# Altium footprint library PCB_SDR.PcbLib: 49 footprints (part 3 of 4)
Each footprint in its own frame and in the unit in brackets; x right, y up, seen from the top. Pads: shape width x height; smd on the part's side, far side on the other; paste and mask are expansions set on the pad; w line width, h text height; cw(c..) or ccw(c..) is an arc to the next point about the centre after c.
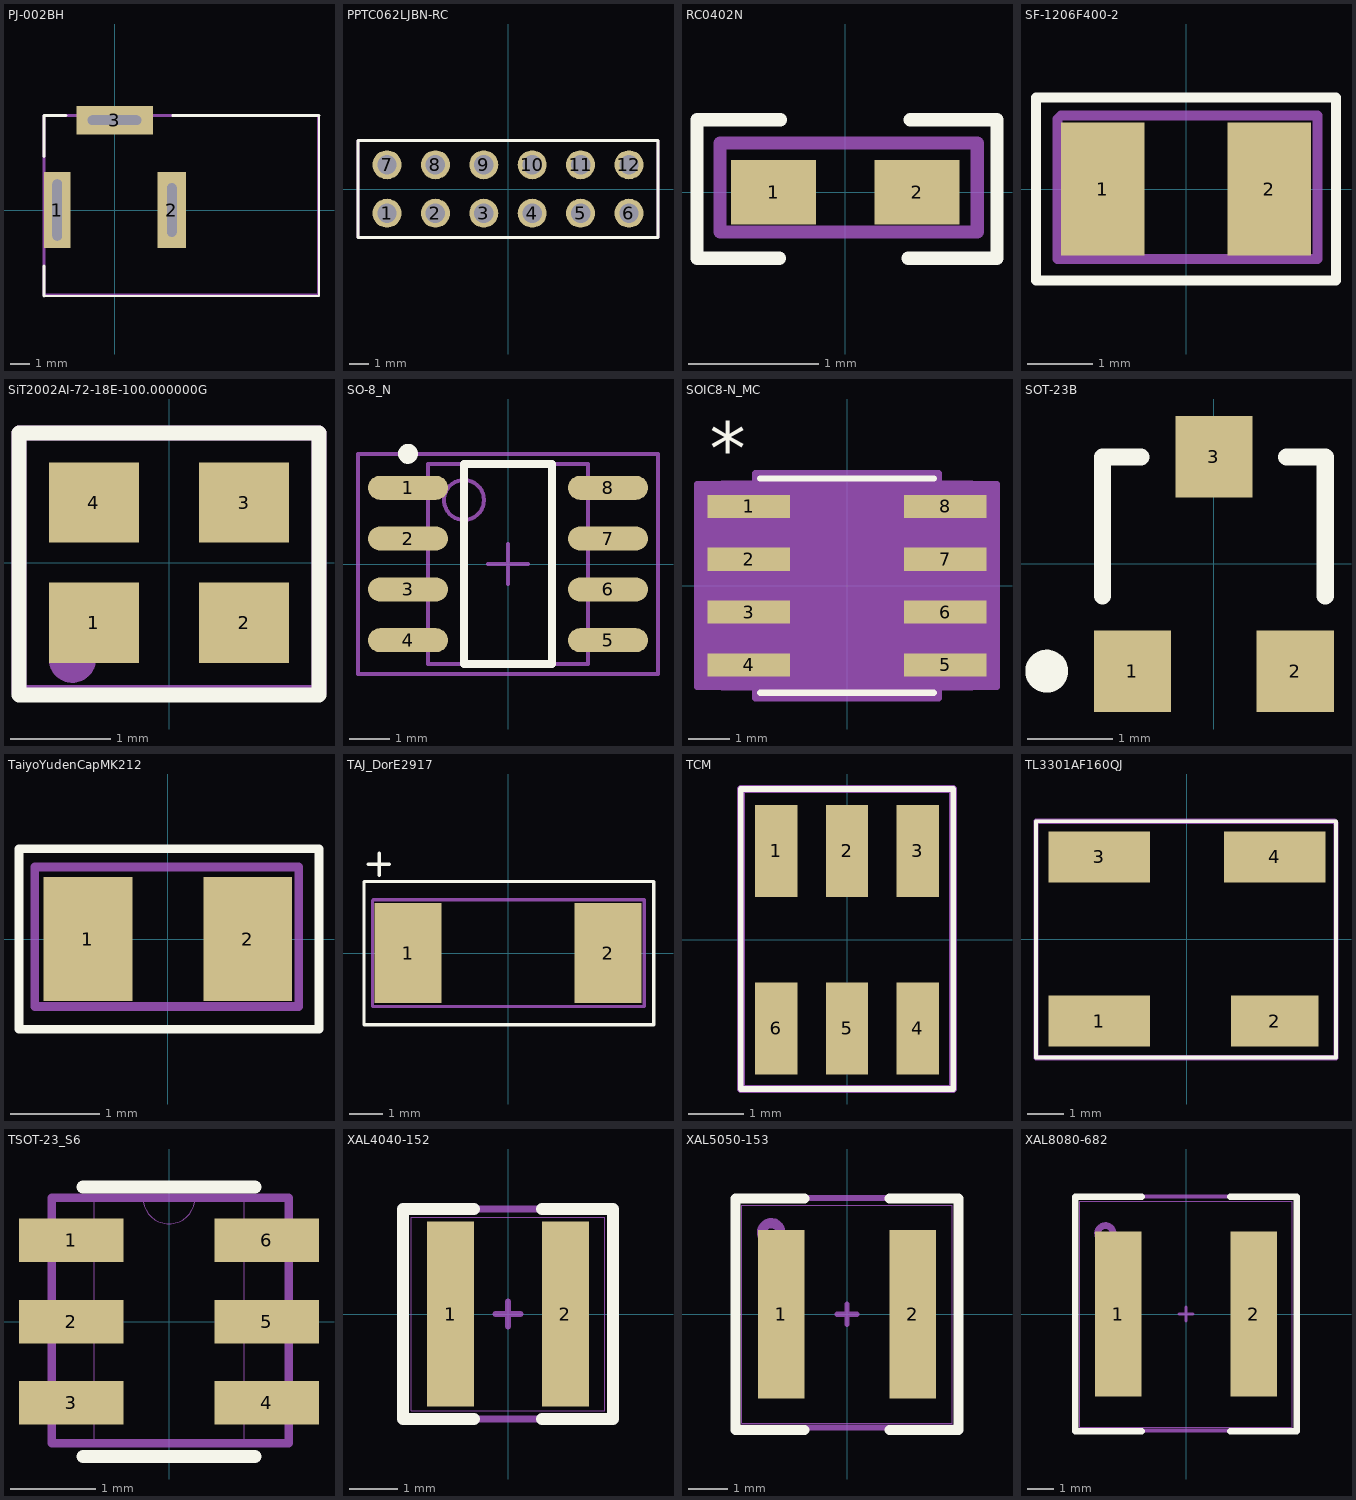
[diagram p2: the footprints below, top view; thin cyan lines are the x and y axes]

## PJ-002BH [mm]
pads (3):
  rect 1.4x4 hole 0.5 slot 3.2 at 90 deg: 1(-3,0)
  rect 1.5x4 hole 0.5 slot 2.8 at 90 deg: 2(3,0)
  rect 4x1.5 hole 0.5 slot 2.8 at 0 deg: 3(0,4.7)
Top Overlay:
  lines w0.127: -3.7,-4.5 10.7,-4.5 10.7,4.953
  lines w0.15: -3.7,-4.5 -3.7,-2.921 ; -3.683,2.794 -3.683,4.953 -2.54,4.953 ; 3.048,4.953 10.7,4.953
Mechanical 16:
  lines w0.15: -3.683,-4.445 -3.683,4.953 10.668,4.953 10.668,-4.445 10.541,-4.445 -3.683,-4.445
Mechanical 29:
  text ".Designator" at 0.127,-0.254 h1.02
3D body "pj-002bh.stp": height 11, standoff -3.5, extent -3.732,-4.446 10.668,4.954

## PPTC062LJBN-RC [mil]
pads (12):
  round 60 hole 40.16: 1(-250,-50) 2(-150,-50) 3(-50,-50) 4(50,-50) 5(150,-50) 6(250,-50) 7(-250,50) 8(-150,50) 9(-50,50) 10(50,50) 11(150,50) 12(250,50)
Top Overlay:
  lines w5.91: -309.84,-100 309.84,-100 309.84,100 -309.84,100 -309.84,-100
Mechanical 16:
  lines w5.91: -310,-100 310,-100 310,100 -310,100 -310,-100
Mechanical 29:
  text ".Designator" at -155,-10 h40
3D body "_ _ _C062LJBN-RC.STEP": height 200, standoff -124.02, extent -310,-452.76 309.69,52.76

## RC0402N [mm]
pads (2):
  rect 0.656x0.5 smd: 1(-0.553,0) 2(0.553,0)
Top Overlay:
  lines w0.102: -0.508,-0.508 -1.143,-0.508 -1.143,0.559 -0.5,0.559 ; 0.483,-0.508 1.168,-0.508 1.168,0.559 0.5,0.559
Mechanical 16:
  lines w0.102: -0.965,-0.305 -0.965,0.381 1.016,0.381 1.016,-0.305 -0.965,-0.305
Mechanical 29:
  text ".Designator" at -0.66,-0.127 h0.38
3D body "User Library-SMD RESISTOR-10402.STEP": height 0.36, standoff 0, extent -0.5,-0.246 0.5,0.254

## SF-1206F400-2 [mm]
pads (2):
  rect 1.27x2.03 smd: 1(-1.27,0) 2(1.27,0)
Top Overlay:
  lines w0.15: -2.286,-1.397 -2.286,1.397 2.286,1.397 2.286,-1.397 -2.286,-1.397
Mechanical 16:
  lines w0.15: -1.956,-1.067 2.007,-1.067 2.007,1.118 -1.905,1.118 -1.956,1.067 -1.956,-1.067
  lines w0.254: -1.377,0.658 cw(c-1.448,0.686) -1.372,0.686
Mechanical 29:
  text ".Designator" at -1.143,-0.356 h0.51

## SiT2002AI-72-18E-100.000000G [mm]
pads (4):
  rect 0.9x0.8 smd: 1(-0.75,-0.6) 2(0.75,-0.6) 3(0.75,0.6) 4(-0.75,0.6)
Top Overlay:
  lines w0.15: -1.499,-1.321 1.499,-1.321 1.499,1.295 -1.499,1.295 -1.499,-1.321
Mechanical 16:
  lines w0.15: -1.499,-1.295 -1.499,1.295 1.499,1.295 1.499,-1.295 -1.499,-1.295
  lines w0.254: -0.858,-0.953 ccw(c-0.965,-0.965) -0.857,-0.965
Mechanical 29:
  text ".Designator" at -0.813,-0.178 h1.02
3D body: height 1, standoff 0, extent -1.016,-0.762 1.016,0.762

## SO-8_N [mm]
pads (8):
  oval 2x0.6 smd: 1(-2.5,1.905) 2(-2.5,0.635) 3(-2.5,-0.635) 4(-2.5,-1.905) 5(2.5,-1.905) 6(2.5,-0.635) 7(2.5,0.635) 8(2.5,1.905)
Top Overlay:
  circle w0.25: c-2.5,2.755 r0.125
  lines w0.2: -1.1,-2.5 1.1,-2.5 1.1,2.5 -1.1,2.5 -1.1,-2.5
Mechanical 13:
  circle w0.1: c-1.1,1.6 r0.5
  lines w0.1: -2,-2.5 2,-2.5 2,2.5 -2,2.5 -2,-2.5
Mechanical 15:
  lines w0.1: -0.5,0 0.5,0 ; 0,-0.5 0,0.5 ; -3.75,-2.75 3.75,-2.75 3.75,2.75 -3.75,2.75 -3.75,-2.75
3D body: height 1.75, standoff 0, extent -2,-2.5 2,2.5

## SOIC8-N_MC [mil]
pads (8):
  rect 78x22 smd: 1(-93,75) 2(-93,25) 3(-93,-25) 4(-93,-75) 5(93,-75) 6(93,-25) 7(93,25) 8(93,75)
Top Overlay:
  lines w6: -82,-101.5 82,-101.5 ; -82,101.5 82,101.5
  text "*" at -130,105 h50
Mechanical 13:
  lines w0: -12,96.5 ccw(c0,96.5) 12,96.5
Mechanical 15:
  region: -87,-96 -142,-96 -142,96 -87,96 -87,106.5 87,106.5 87,96 142,96 142,-96 87,-96 87,-106.5 -87,-106.5
  lines w6: -142,-96 -87,-96 -87,-106.5 87,-106.5 87,-96 142,-96 142,96 87,96 87,106.5 -87,106.5 -87,96 -142,96 -142,-96
Mechanical 16:
  lines w5.91: -118.1,96.45 -118.1,-96.46 118.12,-96.46 118.12,96.45 -116.65,96.45
Mechanical 29:
  text ".Designator" at -70,-10 h30
3D body "User Library-SOIC-8-1.STEP": height 68.9, standoff 0, extent -118.1,-96.46 118.12,96.45

## SOT-23B [mm]
pads (3):
  rect 0.9x0.95 smd: 1(-0.95,-1.25) 2(0.95,-1.25) 3(0,1.25)
Top Overlay:
  circle w0.25: c-1.95,-1.25 r0.125
  lines w0.2: -1.3,-0.375 -1.3,1.25 -0.85,1.25 ; 0.85,1.25 1.3,1.25 1.3,-0.375
3D body "User Library-SOT-23-4.STEP": height 1.02, standoff -0.05, extent -1.475,-1.133 1.475,1.25

## TaiyoYudenCapMK212 [mm]
pads (2):
  rect 1x1.4 smd: 1(-0.9,0) 2(0.9,0)
Top Overlay:
  lines w0.1: -1.676,-1.016 1.702,-1.016 1.702,1.016 -1.676,1.016 -1.676,-1.016
Mechanical 16:
  lines w0.1: -1.499,-0.762 -1.499,0.813 1.473,0.813 1.473,-0.762 -1.499,-0.762
Mechanical 29:
  text ".Designator" at -0.864,-0.229 h0.76
3D body "User Library-SMD CAPACITOR0805.STEP": height 0.6, standoff 0, extent -1,-0.625 1,0.625

## TAJ_DorE2917 [mm]
pads (2):
  rect 2x3 smd: 1(-3,0) 2(3,0)
Top Overlay:
  lines w0.1: -4.191,2.667 -3.556,2.667 ; -3.861,2.337 -3.861,2.997 ; -4.318,-2.15 4.369,-2.15 4.369,2.15 -4.318,2.15 -4.318,-2.15
Mechanical 16:
  lines w0.1: -4.064,-1.6 4.089,-1.6 4.089,1.6 -4.039,1.6 -4.064,1.575 -4.064,-1.6
  lines w0.254: -3.1,0.925 cw(c-3.175,0.914) -3.1,0.928
Mechanical 29:
  text ".Designator" at -3.048,-0.508 h1.52
3D body "Y__Y90.stp": height 1.89, standoff -0.01, extent -3.7,-2.235 3.7,2.215

## TCM [mm]
pads (6):
  rect 0.76x1.65 smd: 1(-1.27,1.59) 2(0,1.59) 3(1.27,1.59) 4(1.27,-1.59) 5(0,-1.59) 6(-1.27,-1.59)
Top Overlay:
  lines w0.1: -1.905,-2.675 -1.905,2.7 1.905,2.7 1.905,-2.675 -1.905,-2.675
Mechanical 16:
  lines w0.15: -1.9,-2.675 1.9,-2.675 1.9,2.7 -1.9,2.7 -1.9,-2.675
Mechanical 29:
  text ".Designator" at -1.35,0.025 h1.02
3D body: height 4, standoff 0, extent -1.925,-2.025 1.9,2.025

## TL3301AF160QJ [mm]
pads (4):
  rect 2.785x1.4 smd: 1(-2.408,-2.25) 3(-2.408,2.25) 4(2.408,2.25)
  rect 2.408x1.4 smd: 2(2.408,-2.25)
Top Overlay:
  lines w0.1: -4.14,-3.251 4.089,-3.251 4.089,3.226 -4.14,3.226 -4.14,-3.251
Mechanical 16:
  lines w0.15: -4.14,-3.251 4.089,-3.251 4.089,3.175 4.039,3.226 -4.14,3.226 -4.14,-3.251
Mechanical 29:
  text ".Designator" at -3.023,-0.457 h1.52
3D body "TL3301AFxxxxJ.stp": height 5.32, standoff 0.02, extent -3.3,-3 3.3,3

## TSOT-23_S6 [mil]
pads (6):
  rect 48x20 smd: 1(-45,37.4) 2(-45,0) 3(-45,-37.4) 4(45,-37.4) 5(45,0) 6(45,37.4)
Top Overlay:
  lines w6: -39.5,-62 39.5,-62 ; -39.5,62 39.5,62
Mechanical 1:
  lines w0: -12,57 ccw(c0,57) 12,57 ; -55,-46.4 -34.5,-46.4 -34.5,-28.4 -55,-28.4 -55,-46.4 ; -55,-9 -34.5,-9 -34.5,9 -55,9 -55,-9 ; -55,28.4 -34.5,28.4 -34.5,46.4 -55,46.4 -55,28.4 ; -34.5,-57 -34.5,57 34.5,57 34.5,-57 -34.5,-57 ; 34.5,-46.4 55,-46.4 55,-28.4 34.5,-28.4 34.5,-46.4 ; 34.5,-9 55,-9 55,9 34.5,9 34.5,-9 ; 34.5,28.4 55,28.4 55,46.4 34.5,46.4 34.5,28.4
Mechanical 16:
  lines w3.94: -54,-56 -54,46 -54,57 55,57 55,-56 -54,-56
  lines w10: -33.88,38.48 cw(c-37,39) -33.88,39.52
Mechanical 29:
  text ".Designator" at -33,-12 h60
3D body "User Library-SOT23-6-2.STEP": height 57.09, standoff 0, extent -55.11,-57.09 55.12,57.09

## XAL4040-152 [mil]
pads (2):
  rect 38x150 smd: 1(-46.5,0) 2(46.5,0)
Top Overlay:
  lines w10: -27.5,-85 -85,-85 -85,85 -27.5,85 ; 27.5,-85 85,-85 85,85 27.5,85
Mechanical 13:
  lines w5: -10,0 10,0 ; 0,-10 0,10
Mechanical 14:
  lines w1: -78.5,-78.5 78.5,-78.5 78.5,78.5 -78.5,78.5 -78.5,-78.5
Mechanical 16:
  lines w5.91: -86,-85 -86,84 -85,85 84,85 84,-84 83,-85 -86,-85
  lines w10: -48.23,63.79 ccw(c-53,62) -47.92,61.58
Mechanical 29:
  text ".Designator" at -41,-27 h40
3D body "XAL4040.STEP": height 161.48, standoff 0.06, extent -84.65,-84.65 84.64,84.64

## XAL5050-153 [mil]
pads (2):
  rect 46x167 smd: 1(-65,0) 2(65,0)
Top Overlay:
  lines w10: -42,-114.5 -110.5,-114.5 -110.5,114.5 -42,114.5 ; 42,-114.5 110.5,-114.5 110.5,114.5 42,114.5
Mechanical 13:
  lines w5: -10,0 10,0 ; 0,-10 0,10
Mechanical 14:
  lines w1: -104,-108 -104,108 104,108 104,-108 -104,-108
Mechanical 16:
  lines w5.91: -110,-112 -110,115 109,115 109,-110.5 107.5,-112 -110,-112
  lines w10: -66.25,83.92 ccw(c-75,81) -65.83,81.92
Mechanical 29:
  text ".Designator" at -40,-5 h40
3D body "XAL5050-153.STEP": height 200.85, standoff 0.06, extent -107.88,-111.81 107.87,111.81

## XAL8080-682 [mil]
pads (2):
  rect 70x247 smd: 1(-101.5,0) 2(101.5,0)
Top Overlay:
  lines w10: -66.5,-176 -166,-176 -166,176 -66.5,176 ; 66.5,-176 166,-176 166,176 66.5,176
Mechanical 13:
  lines w5: -10,0 10,0 ; 0,-10 0,10
Mechanical 14:
  lines w1: -159.5,-169.5 159.5,-169.5 159.5,169.5 -159.5,169.5 -159.5,-169.5
Mechanical 16:
  lines w5.91: -166,-174 -166,175 -165,176 165,176 165,-175 -165,-175
  lines w10: -109.47,122.77 ccw(c-121,121) -109.39,122.06
Mechanical 29:
  text ".Designator" at -44,-12 h40
3D body "XAL8080-682.STEP": height 315.02, standoff 0.06, extent -163.39,-173.23 163.38,173.23